# Altium footprint library PcbLib1.PcbLib: 27 footprints (part 1 of 2)
Each footprint in its own frame and in the unit in brackets; x right, y up, seen from the top. Pads: shape width x height; smd on the part's side, far side on the other; paste and mask are expansions set on the pad; w line width, h text height; cw(c..) or ccw(c..) is an arc to the next point about the centre after c.
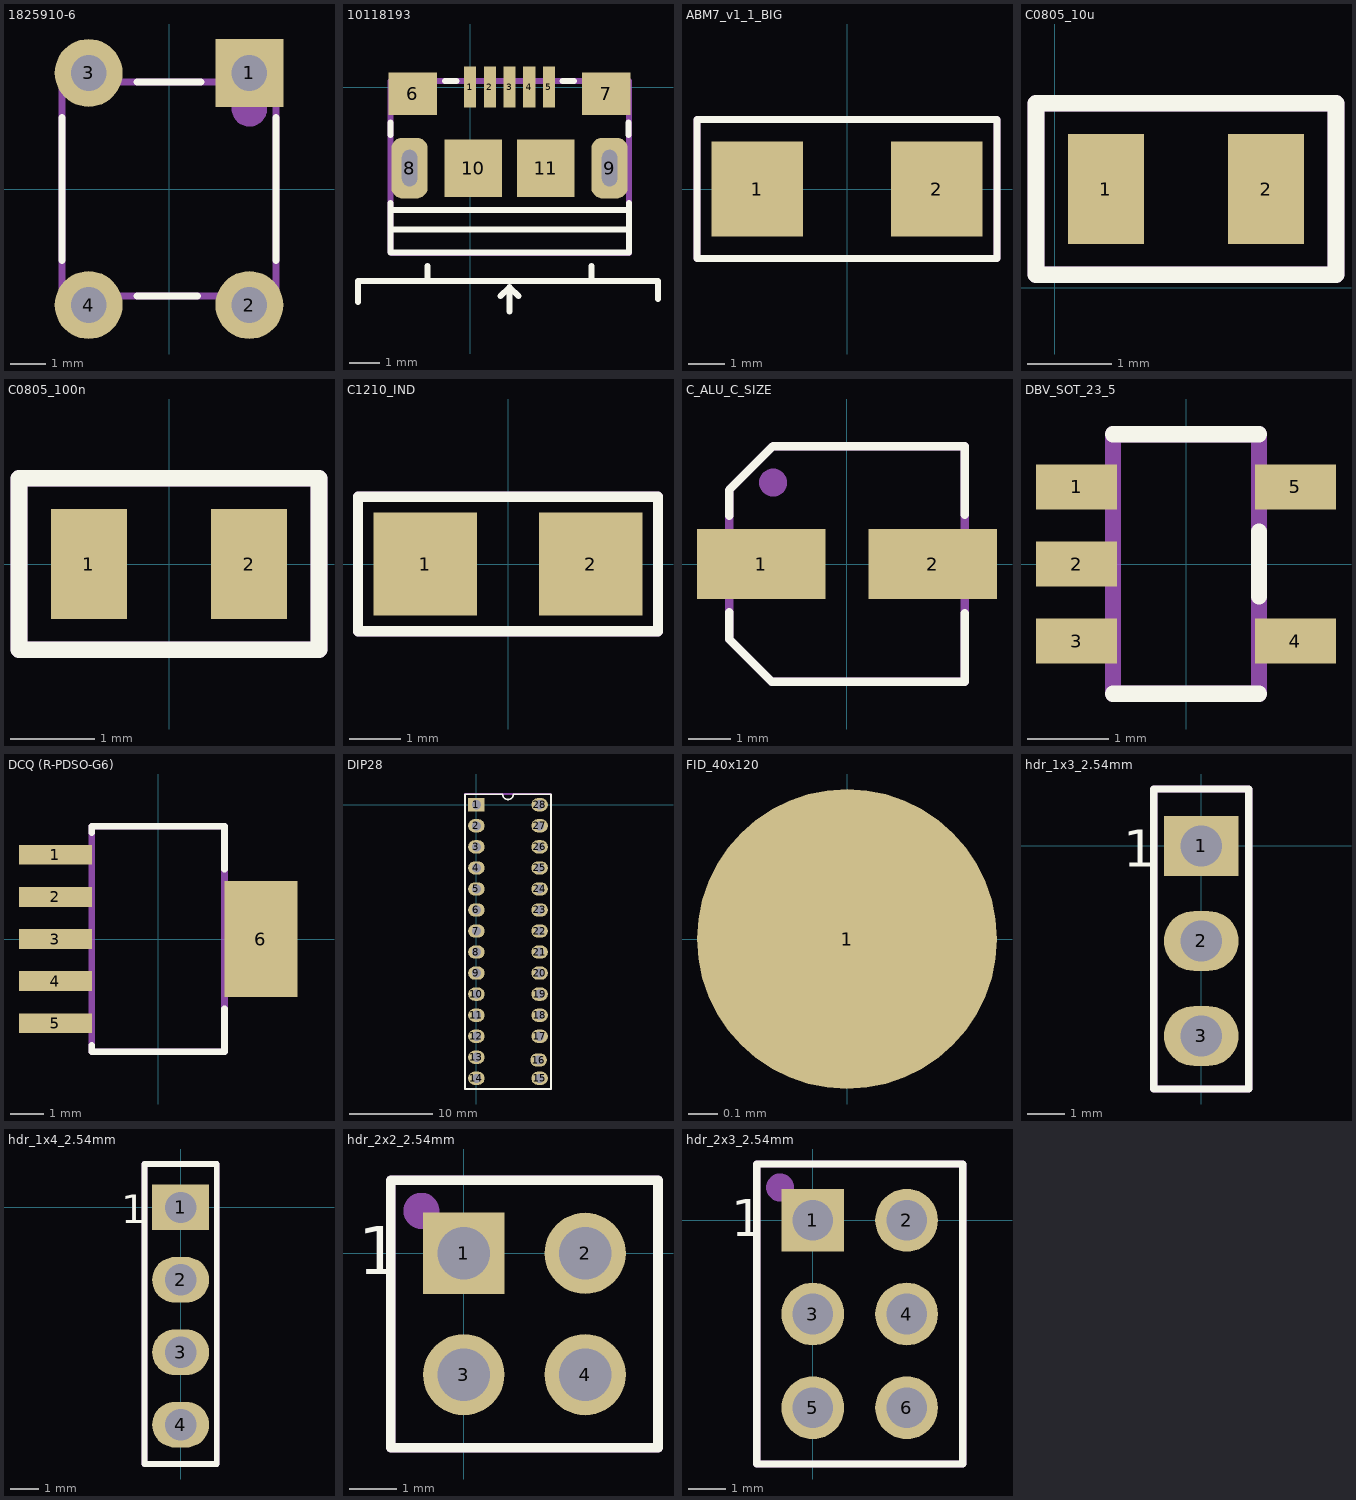
[diagram p0: the footprints below, top view; thin cyan lines are the x and y axes]

## 28_DIP_7.26mm_SCKT [mm]
3D body "dil_socket.stp": height 4.2, standoff -3.17, extent -1.2,-34.4 8.9,1.1

## 1825910-6 [mm]
pads (4):
  rect 1.9x1.9 hole 1: 1(2.25,3.25)
  round 1.9 hole 1: 2(2.25,-3.25) 3(-2.25,3.25) 4(-2.25,-3.25)
Top Overlay:
  lines w0.2: -3,-2 -3,0 -3,2 ; -0.9,-3 0.8,-3 0,-3 ; -0.9,3 0,3 0.9,3 ; 3,-2 3,0 3,2
Mechanical 29:
  circle w0.5: c2.25,2.25 r0.25
  lines w0.2: -3,-3 3,-3 3,0 3,3 -3,3 -3,-3
  text ".Designator" at -2.496,-0.238 h1.52
3D body "User Library-FSM4JLH(1825910-5).step": height 5, standoff -3.51, extent -2.995,-3.999 2.995,3.8

## 10118193 [mm]
pads (11):
  rect 0.4x1.34 smd mask+0.05: 1(0,0) 2(0.65,0) 3(1.3,0) 4(1.95,0) 5(2.6,0)
  rect 1.6x1.4 smd: 6(-1.9,-0.225) 7(4.5,-0.225)
  rrect60% 1.2x2 hole 0.5 slot 1.2 at 90 deg: 8(-2,-2.675) 9(4.6,-2.675)
  rect 1.9x1.9 smd: 10(0.1,-2.675) 11(2.5,-2.675)
Top Overlay:
  lines w0.2: -3.7,-7.1 -3.7,-6.4 6.2,-6.4 6.2,-7 ; -2.625,-4.065 5.232,-4.065 ; -2.625,-3.825 -2.625,-5.455 -2.615,-5.465 ; -2.625,-1.575 -2.625,-1.175 ; -1.4,-6.4 -1.4,-5.9 ; -0.825,0.2 -0.45,0.2 ; 1,-6.9 1.3,-6.6 ; 1.3,-7.4 1.3,-6.6 ; 1.6,-6.9 1.3,-6.6 ; 3.05,0.2 3.425,0.2 ; 4,-6.3 4,-5.9 ; 5.225,-1.575 5.225,-1.175 ; 5.24,-3.83 5.24,-5.465 ; 5.24,-5.465 5.24,-4.7 -0.475,-4.7 -2.625,-4.7 -2.625,-5.465 5.24,-5.465
Mechanical 29:
  lines w0.2: -2.625,-5.45 -2.625,0.2 5.25,0.2 5.25,-5.475 -2.6,-5.475 -2.625,-5.45
  text ".Designator" at -1.596,-3.213 h1.52
3D body "User Library-10118193.step": height 2.82, standoff -0.78, extent -2.628,-5.461 5.228,0.2

## ABM7_v1_1_BIG [mm]
pads (2):
  rect 2.5x2.6 smd: 1(-2.45,0) 2(2.45,0)
Top Overlay:
  lines w0.2: -4.1,-1.9 -4.1,1.9 4.1,1.9 4.1,-1.9 -4.1,-1.9
Mechanical 29:
  lines w0.2: -4.1,-1.9 4.1,-1.9 4.1,1.9 -4.1,1.9 -4.1,-1.9
  text ".Designator" at -3.546,-1.238 h1.52
3D body "ABM7.STEP": height 1.41, standoff 0.01, extent -3,-1.753 2.994,1.753

## C0805_10u [mm]
pads (2):
  rect 0.9x1.3 smd: 1(0.607,1.17) 2(2.507,1.17)
Top Overlay:
  lines w0.2: -0.221,0.154 3.335,0.154 3.335,2.186 -0.221,2.186 -0.221,0.154
Mechanical 29:
  lines w0.2: -0.221,0.154 3.335,0.154 3.335,2.186 -0.221,2.186 -0.221,0.154
  text ".Designator" at 0.125,0.508 h1.3
3D body "CAPC2012X145N EIA 0805.step": height 1.21, standoff 0.01, extent 0.524,0.455 2.524,1.905

## C0805_100n [mm]
pads (2):
  rect 0.9x1.3 smd: 1(-0.95,0) 2(0.95,0)
Top Overlay:
  lines w0.2: -1.778,-1.016 1.778,-1.016 1.778,1.016 -1.778,1.016 -1.778,-1.016
Mechanical 29:
  lines w0.2: -1.778,-1.016 1.778,-1.016 1.778,1.016 -1.778,1.016 -1.778,-1.016
  text ".Designator" at -1.27,-0.508 h1.52
3D body "CAPC2012X94N EIA 0805.step": height 0.95, standoff 0.01, extent -1,-0.6 1,0.6

## C1210_IND [mm]
pads (2):
  rect 2x2 smd: 1(-1.6,0) 2(1.6,0)
Top Overlay:
  lines w0.2: -2.9,-1.3 2.9,-1.3 2.9,1.3 -2.9,1.3 -2.9,-1.3
Mechanical 29:
  lines w0.2: -2.9,-1.3 -2.9,1.3 2.9,1.3 2.9,-1.3 -2.9,-1.3
  text ".Designator" at -2.146,-0.638 h1.52
3D body: height 2.7, standoff 0, extent -1.4,-0.75 1.5,0.75
3D body: height 2.7, standoff 0, extent 1.5,-0.75 1.8,0.75
3D body: height 2.7, standoff 0, extent -1.7,-0.75 -1.4,0.75

## C_ALU_C_SIZE [mm]
pads (2):
  rect 3x1.63 smd: 1(-2,0) 2(2,0)
Top Overlay:
  lines w0.2: -2.75,-1.125 -2.75,-1.75 -1.75,-2.75 2.75,-2.75 2.75,-1.15 ; -2.75,1.125 -2.75,1.725 -1.725,2.75 2.75,2.75 ; 0.025,2.75 2.75,2.75 ; 2.75,1.15 2.75,2.75
Mechanical 29:
  circle w0.5: c-1.725,1.9 r0.075
  lines w0.2: -2.75,-1.75 -2.75,1.125 -2.75,1.725 -1.725,2.75 2.75,2.75 2.75,-2.75 -1.75,-2.75 -2.75,-1.75
  text ".Designator" at -1.896,-0.613 h1.52
3D body "User Library-capacitor size C.step": height 5.41, standoff -0.01, extent -2.95,-2.65 2.95,2.65

## DBV_SOT_23_5 [mm]
pads (5):
  rect 1x0.55 smd: 1(-1.35,0.95) 2(-1.35,0) 3(-1.35,-0.95) 4(1.35,-0.95) 5(1.35,0.95)
Top Overlay:
  lines w0.2: -0.9,-1.6 0.9,-1.6 ; -0.9,1.6 0.9,1.6 ; 0.9,-0.4 0.9,0.4
Mechanical 29:
  lines w0.2: -0.9,-1.6 0.9,-1.6 0.9,1.6 -0.9,1.6 -0.9,-1.6
  text ".Designator" at 0.153,-1.32 h0.8
3D body "User Library-TPS79333DBVR.step": height 1.61, standoff -0.01, extent -1.539,-1.525 1.489,1.525

## DCQ (R-PDSO-G6) [mm]
pads (6):
  rect 2.2x0.6 smd: 1(-3.1,2.54) 2(-3.1,1.27) 3(-3.1,0) 4(-3.1,-1.27) 5(-3.1,-2.54)
  rect 2.2x3.5 smd: 6(3.1,0)
Top Overlay:
  lines w0.2: -2,-3.2 -2,-3.4 2,-3.4 2,-2.1 ; -2,3.2 -2,3.4 2,3.4 2,2.1
Mechanical 29:
  lines w0.2: -2,-3.4 -2,3.4 2,3.4 2,-3.4 -2,-3.4
  text ".Designator" at 0.838,-2.946 h1.52
3D body "User Library-TPS73701DCQ.step": height 1.8, standoff 0, extent -3.63,-3.275 3.63,3.275

## DIP28 [mm]
pads (28):
  rect 2x1.6 hole 1.1: 1(0,0)
  oval 2x1.6 hole 1.1: 2(0,-2.54) 3(0,-5.08) 4(0,-7.62) 5(0,-10.16) 6(0,-12.7) 7(0,-15.24) 8(0,-17.78) 9(0,-20.32) 10(0,-22.86) 11(0,-25.4) 12(0,-27.94) 13(0,-30.48) 14(0,-33.02) 15(7.62,-33.02) 16(7.51,-30.81) 17(7.62,-27.94) 18(7.62,-25.4) 19(7.62,-22.86) 20(7.62,-20.32) 21(7.62,-17.78) 22(7.62,-15.24) 23(7.62,-12.7) 24(7.62,-10.16) 25(7.62,-7.62) 26(7.62,-5.08) 27(7.62,-2.54) 28(7.62,0)
Top Overlay:
  lines w0.2: -1.39,-34.31 9.01,-34.31 9.01,1.27 4.445,1.27 cw(c3.81,1.27) 3.175,1.27 -1.39,1.27 -1.39,-34.31
Mechanical 29:
  circle w0.5: c0.01,-0.01 r0.2
  lines w0.254: 8.91,1.29 -1.39,1.29 -1.39,-34.31 9.01,-34.31 9.01,1.19
  text ".Designator" at 4.91,-23.21 h3
3D body "User Library-28 pin dip-1.STEP": height 7.55, standoff 1.33, extent -0.127,-34.61 7.747,1.331

## FID_40x120 [mil]
pads (1):
  round 40 smd paste-1574.8 mask+40: 1(0,0)

## hdr_1x3_2.54mm [mm]
pads (3):
  rect 2x1.6 hole 1.1: 1(0,0)
  oval 2x1.6 hole 1.1: 2(0,-2.54) 3(0,-5.08)
Top Overlay:
  lines w0.2: -1.27,-6.5 -1.27,1.524 0,1.524 1.27,1.524 1.27,-6.5 -1.27,-6.5
  text "1" at -2.086,-0.562 h1
Mechanical 29:
  lines w0.2: -1.27,-6.5 -1.27,1.524 1.27,1.524 1.27,-6.5 -1.27,-6.5
  text ".Designator" at 0.738,-6.046 h1.52
3D body "m20-9990346.stp": height 8.65, standoff -3.03, extent -1.27,-6.298 1.27,1.322

## hdr_1x4_2.54mm [mm]
pads (4):
  rect 2x1.6 hole 1.1: 1(0,0)
  oval 2x1.6 hole 1.1: 2(0,-2.54) 3(0,-5.08) 4(0,-7.62)
Top Overlay:
  lines w0.2: -1.27,-9 1.27,-9 1.27,1.524 0,1.524 -1.27,1.524 -1.27,-9
  text "1" at -2.086,-0.562 h1
Mechanical 29:
  lines w0.2: -1.27,-9 1.27,-9 1.27,1.524 -1.27,1.524 -1.27,-9
  text ".Designator" at 0.838,-8.446 h1.52
3D body "m20-9770446.stp": height 8.35, standoff -3.13, extent -1.27,-8.818 1.27,1.342

## hdr_2x2_2.54mm [mm]
pads (4):
  rect 1.7x1.7 hole 1.1: 1(0,0)
  round 1.7 hole 1.1: 2(2.54,0) 3(0,-2.54) 4(2.54,-2.54)
Top Overlay:
  lines w0.2: -1.524,-4.064 4.064,-4.064 4.064,1.524 -1.524,1.524 -1.524,-4.064
  text "1" at -2.213,-0.435 h1
Mechanical 29:
  circle w0.5: c-0.889,0.889 r0.127
  lines w0.2: -1.524,-4.064 -1.524,1.524 4.064,1.524 4.064,-4.064 -1.524,-4.064
  text ".Designator" at 2.032,-3.683 h1.52
3D body "m20-9970246.stp": height 11.05, standoff -2.95, extent -1.27,-3.81 3.81,1.27

## hdr_2x3_2.54mm [mm]
pads (6):
  rect 1.7x1.7 hole 1.1: 1(0,0)
  round 1.7 hole 1.1: 2(2.54,0) 3(0,-2.54) 4(2.54,-2.54) 5(0,-5.08) 6(2.54,-5.08)
Top Overlay:
  lines w0.2: -1.524,-6.604 4.064,-6.604 4.064,1.524 -1.524,1.524 -1.524,-6.604
  text "1" at -2.213,-0.435 h1
Mechanical 29:
  circle w0.5: c-0.889,0.889 r0.127
  lines w0.2: -1.524,-6.604 -1.524,1.524 4.064,1.524 4.064,-6.604 -1.524,-6.604
  text ".Designator" at 2.032,-5.715 h1.52
3D body "m20-9760346_asm.stp": height 7.75, standoff -3.73, extent -1.27,-6.35 3.81,1.27